# Altium schematic symbol library Polyester Capacitors 250V.SchLib: 1 symbol
Pins are listed as number, name and electrical type; pins without a type are passive.

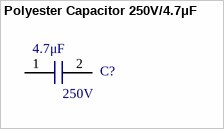
[diagram p0: symbol Polyester Capacitor 250V/4.7μF]

## Polyester Capacitor 250V/4.7μF
designator C?  Voltage: 250V  Capacitance: 4.7μF  (hidden comment: Polyester Capacitor 250V/4.7μF)
4.7µF Film Capacitor  250V Polyester, Metallized Radial; Manufacturer 1: Panasonic Electronic Components; Manufacturer 1 PN: ECQ-E2475KF; ComponentLink1Description: Datasheet; ComponentLink1URL: https://industrial.panasonic.com/cdbs/www-data/pdf/RDI0000/ABD0000C179.pdf; Digikey PN: EF2475-ND; Mouser PN: 667-ECQ-E2475KF
footprint Polyester Capacitor 250V/4.7µF (4.7µF Film Capacitor  250V Polyester, Metallized Radial)
pins: 1, 2